# Altium schematic symbol library encoders.SchLib: 2 symbols
Pins are listed as number, name and electrical type; pins without a type are passive.

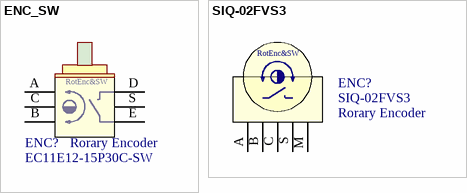
[diagram p0: symbols ENC_SW to SIQ-02FVS3]

## ENC_SW
designator ENC?, comment Rorary Encoder  value EC11E12-15P30C-SW
ENC_SW
footprint Rotary Encoder (Rotary Encoder - SW)
pins: A, B, C, D SW, E SW, S SHIELD
text: RotEnc&SW

## SIQ-02FVS3
designator ENC?, comment Rorary Encoder  value SIQ-02FVS3
ENC_SW
footprint SIQ-02FVS3 (Wheel encoder with slide rotary encoder switch)
pins: A, B, C, M SHIELD, S
text: RotEnc&SW